# Altium footprint library controls.PcbLib: 7 footprints
Each footprint in its own frame and in the unit in brackets; x right, y up, seen from the top. Pads: shape width x height; smd on the part's side, far side on the other; paste and mask are expansions set on the pad; w line width, h text height; cw(c..) or ccw(c..) is an arc to the next point about the centre after c.
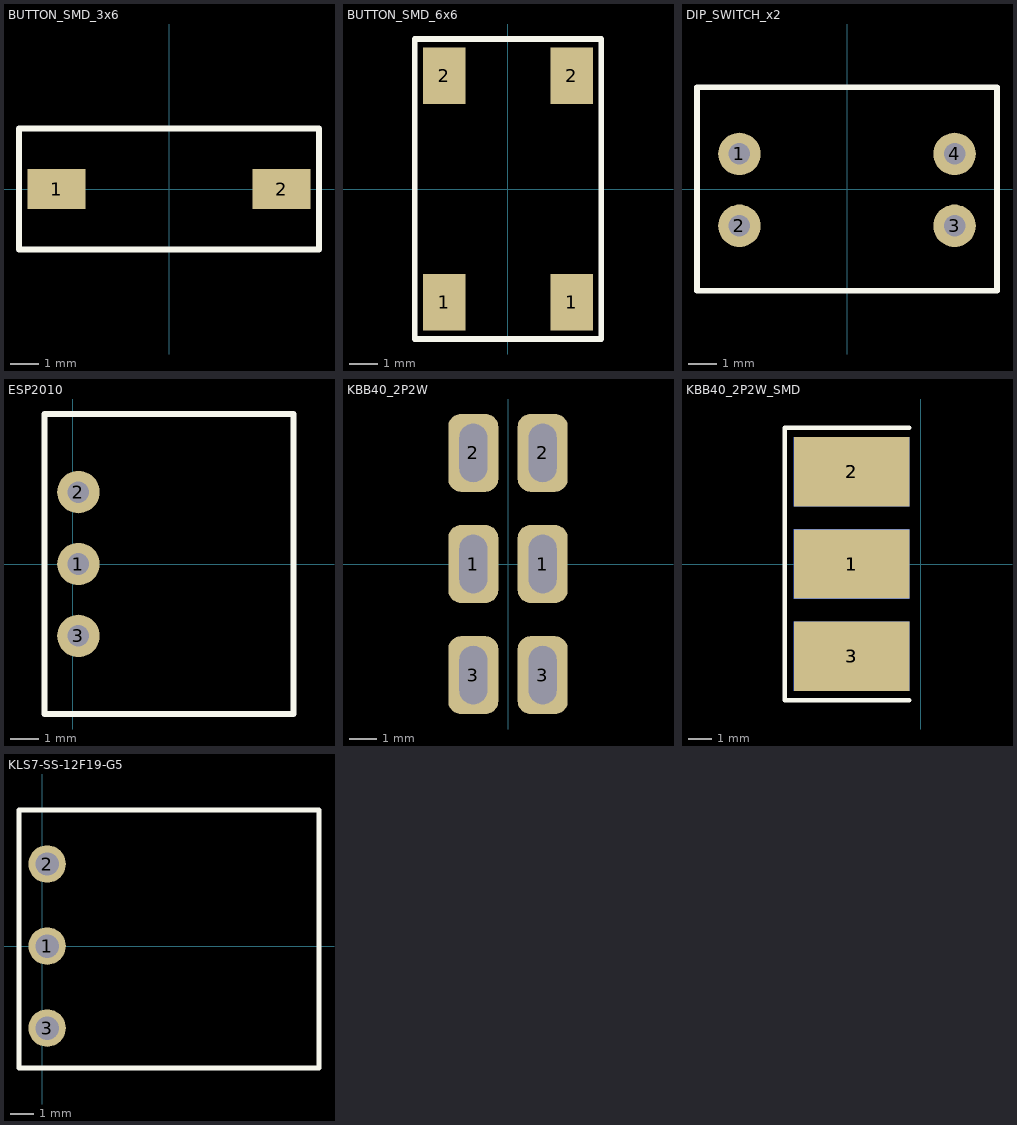
[diagram p0: the footprints below, top view; thin cyan lines are the x and y axes]

## BUTTON_SMD_3x6 [mm]
pads (2):
  rect 2x1.4 smd mask+0.1: 1(-3.9,0) 2(3.9,0)
Top Overlay:
  lines w0.2: -5.2,-2.1 5.2,-2.1 5.2,2.1 -5.2,2.1 -5.2,-2.1
3D body "6x3mm Button.stp": height 2.54, standoff -0.03, extent -3.886,-1.791 3.886,1.791

## BUTTON_SMD_6x6 [mm]
height 5
pads (4):
  rect 1.5x2 smd mask+0.1: 1(-2.25,-4) 1(2.25,-4) 2(-2.25,4) 2(2.25,4)
Top Overlay:
  lines w0.2: -3.3,-5.3 -3.3,5.3 3.3,5.3 3.3,-5.3 -3.3,-5.3
3D body "Tactal Switch - SMD (6mmx 6mmx 4.3mm) - Marked.stp": height 4.3, standoff 0, extent -3.016,-4.508 3.016,4.509

## DIP_SWITCH_x2 [mm]
height 5
pads (4):
  round 1.5 hole 0.762 mask+0.1: 1(-3.8,1.24) 2(-3.8,-1.3) 3(3.8,-1.3) 4(3.8,1.24)
Top Overlay:
  lines w0.2: -5.3,-3.6 5.3,-3.6 5.3,3.6 -5.3,3.6 -5.3,-3.6
3D body "DS1040-02 (DIP_switch).stp": height 6.8, standoff -3.85, extent -4.95,-3.24 4.95,3.3

## ESP2010 [mm]
height 5
pads (3):
  round 1.5 hole 0.762: 1(0.2,0) 2(0.2,2.54) 3(0.2,-2.54)
Top Overlay:
  lines w0.2: -1,-5.3 -1,5.3 7.8,5.3 7.8,-5.3 -1,-5.3
3D body "ESP2010.SLDPRT": height 2.5, standoff -2.55, extent 0,-5 7.45,5

## KBB40_2P2W [mm] "Slider switch 3x2-pin"
height 5
pads (6):
  rrect50% 1.8x2.8 hole 2.1 slot 1 at 0 deg mask+0.1: 1(-1.25,0) 1(1.25,0) 2(-1.25,4) 2(1.25,4) 3(-1.25,-4) 3(1.25,-4)
3D body "SW18200_B.step": height 15.4, standoff -3.6, extent -3.6,-11.5 3.6,11.5

## KBB40_2P2W_SMD [mm] "Slider switch 3x2-pin"
height 5
pads (6):
  rect 5x3 smd: 1(-3,0) 2(-3,4) 3(-3,-4)
  rect 5x3 smd far side: 1(-3,0) 2(-3,4) 3(-3,-4)
Top Overlay:
  lines w0.2: -0.5,-5.9 -5.9,-5.9 -5.9,5.9 -0.5,5.9
3D body "SW18200_B.step": height 3.6, standoff -3.6, extent -4.6,-11.5 14.4,11.5

## KLS7-SS-12F19-G5 [mm]
height 5
pads (3):
  round 1.6 hole 1: 1(0.2,0) 2(0.2,3.5) 3(0.2,-3.5)
Top Overlay:
  lines w0.2: -1,-5.2 -1,5.8 11.8,5.8 11.8,-5.2 -1,-5.2
3D body "Switch.stp": height 5.57, standoff -2.83, extent 0,-4.9 11.44,5.5